# Altium schematic symbol library OV5640M1-500W.SchLib: 2 symbols
Pins are listed as number, name and electrical type; pins without a type are passive.

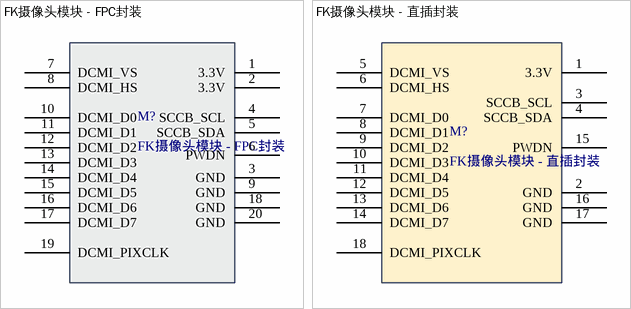
[diagram p0: symbols FK摄像头模块 - FPC封装 to FK摄像头模块 - 直插封装]

## FK摄像头模块 - FPC封装
designator M?
footprint FPC20P-0.5MM
pins: 1 3.3V, 2 3.3V, 3 GND, 4 SCCB_SCL, 5 SCCB_SDA, 6 PWDN, 7 DCMI_VS, 8 DCMI_HS, 9 GND, 10 DCMI_D0, 11 DCMI_D1, 12 DCMI_D2, 13 DCMI_D3, 14 DCMI_D4, 15 DCMI_D5, 16 DCMI_D6, 17 DCMI_D7, 18 GND, 19 DCMI_PIXCLK, 20 GND

## FK摄像头模块 - 直插封装
designator M?
footprint FK摄像头- 直插封装
pins: 1 3.3V, 2 GND, 3 SCCB_SCL, 4 SCCB_SDA, 5 DCMI_VS, 6 DCMI_HS, 7 DCMI_D0, 8 DCMI_D1, 9 DCMI_D2, 10 DCMI_D3, 11 DCMI_D4, 12 DCMI_D5, 13 DCMI_D6, 14 DCMI_D7, 15 PWDN, 16 GND, 17 GND, 18 DCMI_PIXCLK